# EAGLE library part PINHEAD_0.05_RECEPTACLE_2X5 (library Oles komponentbibliotek)
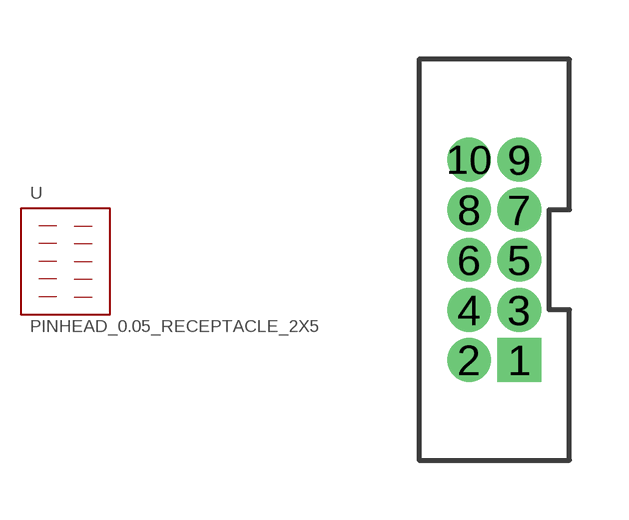
[diagram p68: symbol with the pads of PINHEAD_0.05_RECEPTACLE_2X5; footprint PINHEAD_0.05_RECEPTACLE_2X5]

Designator prefix -

## PINHEAD_0.05_RECEPTACLE_2X5  [PINHEAD_0.05_RECEPTACLE_2X5]
1  P$1
2  P$2
3  P$3
4  P$4
5  P$5
6  P$6
7  P$7
8  P$8
9  P$9
10  P$10

## Footprint PINHEAD_0.05_RECEPTACLE_2X5 (pad centres in mm)
drill 0.6 pad 1.016 square: 1 1.27,-2.54
drill 0.6 pad 1.016: 2 0,-2.54; 3 1.27,-1.27; 4 0,-1.27; 5 1.27,0; 6 0,0; 7 1.27,1.27; 8 0,1.27; 9 1.27,2.54; 10 0,2.54